# Altium schematic symbol library LM317AL-TN3-R.Schlib: 1 symbol
Pins are listed as number, name and electrical type; pins without a type are passive.

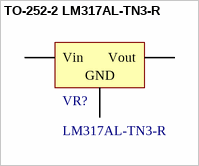
[diagram p0: symbol TO-252-2 LM317AL-TN3-R]

## TO-252-2 LM317AL-TN3-R
designator VR?, comment LM317AL-TN3-R
低压差线性稳压(LDO)
footprint TO-252-2-180 (180度编带包装)
pins: 1 GND, 2 Vout, 3 Vin